# EAGLE library part TMPM375FSDMG (library TMPM375FSDMG)
ARM Microcontrollers - MCU Source: Datasheet <https://www.google.co.jp/url?sa=t&rct=j&q=&esrc=s&source=web&cd=3&cad=rja&uact=8&ved=0ahUKEwi84PazlYjZAhVMjJQKHa_VAE0QFgg0MAI&url=https://toshiba.semicon-storage.com/info/docget.jsp?did=14433&prodName=TMPM375FSDMG&usg=AOvVaw2FjSpbRPn9r22>
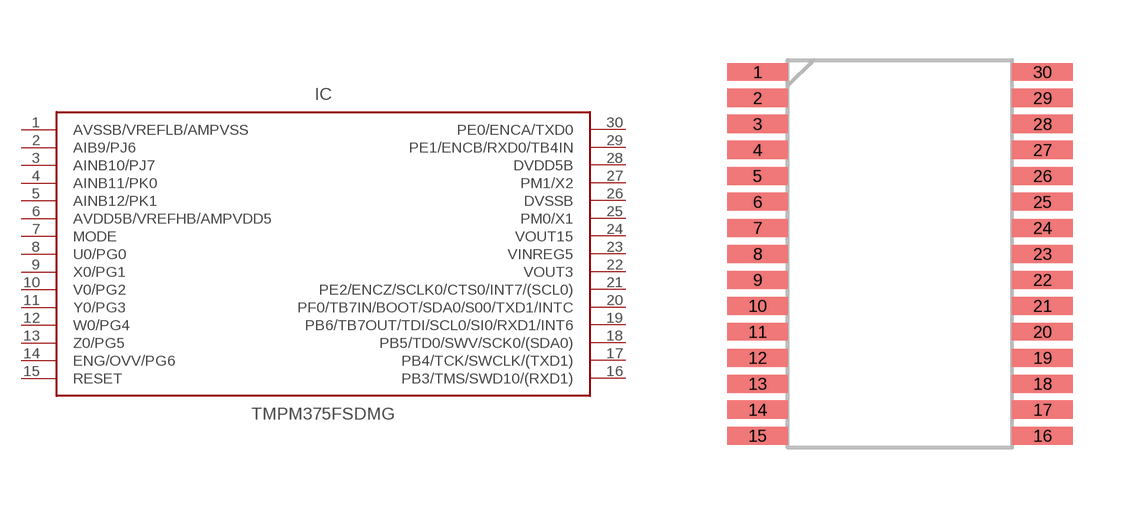
[diagram p0: symbol with the pads of SOP65P760X190-30N; footprint SOP65P760X190-30N]

Designator prefix IC

## TMPM375FSDMG (DESCRIPTION: ARM Microcontrollers - MCU; HEIGHT: 1.9mm; MANUFACTURER_NAME: Toshiba; MANUFACTURER_PART_NUMBER: TMPM375FSDMG; SUPPLIER_NAME: RS)  [SOP65P760X190-30N]
1  AVSSB/VREFLB/AMPVSS  pwr
2  AIB9/PJ6  pas
3  AINB10/PJ7  pas
4  AINB11/PK0  pas
5  AINB12/PK1  pas
6  AVDD5B/VREFHB/AMPVDD5  pas
7  MODE  pas
8  U0/PG0  pas
9  X0/PG1  pas
10  V0/PG2  pas
11  Y0/PG3  pas
12  W0/PG4  pas
13  Z0/PG5  pas
14  ENG/OVV/PG6  pas
15  RESET  pas
16  PB3/TMS/SWD10/(RXD1)  pas
17  PB4/TCK/SWCLK/(TXD1)  pas
18  PB5/TD0/SWV/SCK0/(SDA0)  pas
19  PB6/TB7OUT/TDI/SCL0/SI0/RXD1/INT6  pas
20  PF0/TB7IN/BOOT/SDA0/S00/TXD1/INTC  pas
21  PE2/ENCZ/SCLK0/CTS0/INT7/(SCL0)  pas
22  VOUT3  pas
23  VINREG5  pas
24  VOUT15  pas
25  PM0/X1  pas
26  DVSSB  pwr
27  PM1/X2  pas
28  DVDD5B  pwr
29  PE1/ENCB/RXD0/TB4IN  pas
30  PE0/ENCA/TXD0  pas

## Footprint SOP65P760X190-30N (pad centres in mm)
SSOP30-P-300-0.65
smd 1.525 x 0.45: 1 -3.562,4.55; 2 -3.562,3.9; 3 -3.562,3.25; 4 -3.562,2.6; 5 -3.562,1.95; 6 -3.562,1.3; 7 -3.562,0.65; 8 -3.562,0; 9 -3.562,-0.65; 10 -3.562,-1.3; 11 -3.562,-1.95; 12 -3.562,-2.6; 13 -3.562,-3.25; 14 -3.562,-3.9; 15 -3.562,-4.55; 16 3.562,-4.55; 17 3.562,-3.9; 18 3.562,-3.25; 19 3.562,-2.6; 20 3.562,-1.95; 21 3.562,-1.3; 22 3.562,-0.65; 23 3.562,0; 24 3.562,0.65; 25 3.562,1.3; 26 3.562,1.95; 27 3.562,2.6; 28 3.562,3.25; 29 3.562,3.9; 30 3.562,4.55